# Altium schematic symbol library NCP1117ST50T3G 5V LDO.SchLib: 1 symbol
Pins are listed as number, name and electrical type; pins without a type are passive.

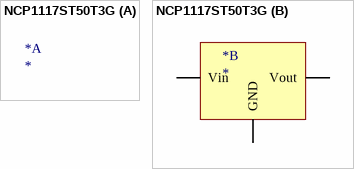
[diagram p0: symbol NCP1117ST50T3G]

## NCP1117ST50T3G
designator *
part B pins: 1 GND, 3 Vin, 4 Vout